# Altium schematic symbol library USR-TCP232E.SchLib: 1 symbol
Pins are listed as number, name and electrical type; pins without a type are passive.

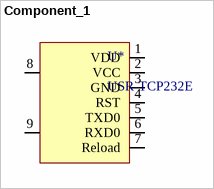
[diagram p0: symbol Component_1]

## Component_1
designator U*, comment USR-TCP232E
footprint USR-TCP232E
pins: 1 VDD, 2 VCC, 3 GND, 4 RST, 5 TXD0, 6 RXD0, 7 Reload, 8, 9